# Altium schematic symbol library DA203X-ALX.SchLib: 1 symbol
Pins are listed as number, name and electrical type; pins without a type are passive.

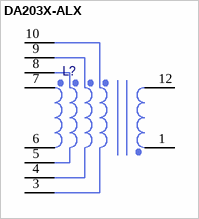
[diagram p0: symbol DA203X-ALX]

## DA203X-ALX
designator L?, comment Flyback Transformer  (value not drawn)
pins: 1, 3, 4, 5, 6, 7, 8, 9, 10, 12